# Altium integrated library Sansen Optoelectronic LED.IntLib: 1 symbol
Pins are listed as number, name and electrical type; pins without a type are passive.

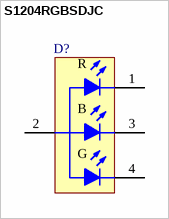
[diagram p0: symbol S1204RGBSDJC]

## S1204RGBSDJC
designator D?
Ultra-Bright RGB Tri-color LED Lamp, 4-Lead 1204-size SMD; Published: 14-Mar-2008; DatasheetVersion: Aug-2006; PackageVersion: Aug-2006; PackageReference: LED1204; Publisher: Altium Limited; PackageDescription: SM Tri-color LED Lamp, 4-Leads 1204-size; ComponentLink1Description: Manufacturer Link; ComponentLink1URL: http://www.sansentech.com/; ComponentLink2Description: Datasheet; ComponentLink2URL: http://www.sansentech.com/LED/S1204RGBSDJC.pdf
footprint LED1204 (SM RGB LED; 4-Leads; Body 3 x 1 mm (1204-size))
pins: 1 R, 2 A2, 3 B, 4 G